# Altium integrated library TI Microcontroller MSP430 16-bit Ultra-Low Power.IntLib: 1463 symbols (part 55 of 130)
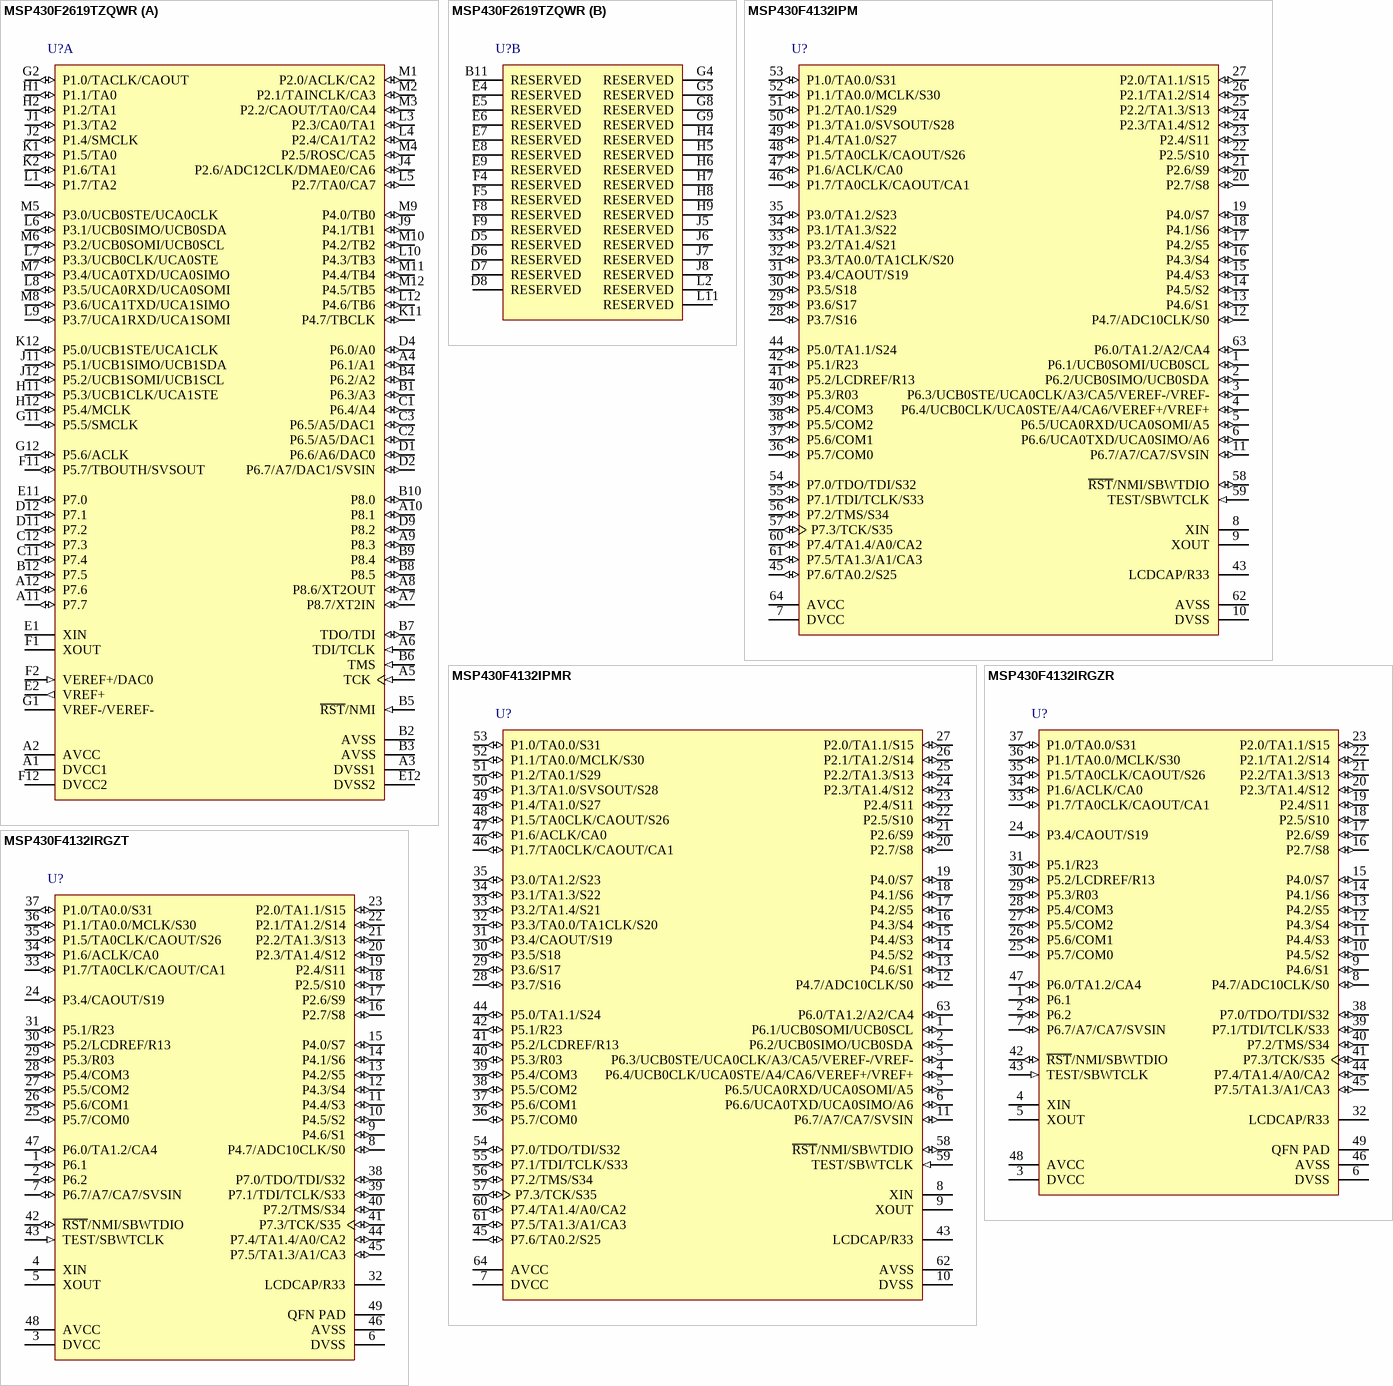
[diagram p264: symbols MSP430F2619TZQWR to MSP430F4132IRGZT]

## MSP430F4132IRGZR
designator U?
8 MHz Mixed Signal Microcontroller with 8 KB Flash, 512 B SRAM and 56 GPIOs, -40 to 85 degC, 48-pin QFN (RGZ), Green (RoHS & no Sb/Br); Manufacturer: Texas Instruments; PartNumber: MSP430F4132IRGZR; ADC: 10-bit SAR; Brown Out Reset: Yes; Flash(KB): 8; GPIO: 56; LCD Segments: 144; SRAM(B): 512; SubFamily: 4 Series with LCD; Timers - 16-bit: 2; USCI_A (UART/LIN/IrDA/SPI): 1; DatasheetVersion: SLAS648E; PackageVersion: 4204101/F; PackageReference: RGZ48-5150X5150TP; PackageDescription: 48-Pin Plastic Flat Pack, Body 7 x 7 mm, Pitch 0.5 mm; Supplier 1: Digi-Key; Supplier Part Number 1: 296-24860-2-ND; Supplier 2: Digi-Key; Supplier Part Number 2: 296-24860-1-ND; Supplier 3: Digi-Key; Supplier Part Number 3: 296-24860-6-ND; Supplier 4: Newark; Supplier Part Number 4: 24R9835; Supplier 5: Mouser; Supplier Part Number 5: 595-MSP430F4132IPMR; Comparators: Yes; Eco-Plan: Green (RoHS & no Sb/Br); Frequency(MHz): 8; SVS: Yes; Temp Sensor: Yes; USCI_B (I2C & SPI): 1; Watchdog: Yes; Mounting Technology: Surface Mount; Code_JEDEC: MO-220; ComponentLink1Description: Manufacturer URL; ComponentLink1URL: http://www.ti.com/; ComponentLink2Description: Datasheet; ComponentLink2URL: http://www.ti.com/general/docs/lit/getliterature.tsp?genericPartNumber=MSP430F4132&fileType=pdf; ComponentLink3Description: Package Specification; ComponentLink3URL: http://www.ti.com/lit/ml/mpqf123e/mpqf123e.pdf
footprint TI-RGZ48-5150X5150TP_N (QFN, 48-Leads, Body 7x7mm, Pitch 0.5mm, Thermal Pad 5.15X5.15mm, IPC Medium Density)
pins: 1 P6.1 (io) "General-purpose digital I/O pin USCI B0 slave out/master in in SPI mode, SCL I2C clock in I2C model", 2 P6.2 (io) "General-purpose digital I/O pin USCI B0 slave in/master out in SPI mode, SDA I2C data in I2C model", 3 DVCC (power) "Digital supply voltage, positive terminal. Supplies all digital parts", 4 XIN "Input port for crystal oscillator XT1. Standard or watch crystals can be connected", 5 XOUT "Output port for crystal oscillator XT1. Standard or watch crystals can be connected", 6 DVSS (power) "Digital supply voltage, negative terminal. Supplies all digital parts", 7 P6.7/A7/CA7/SVSIN (io), 8 P4.7/ADC10CLK/S0 (io), 9 P4.6/S1 (io), 10 P4.5/S2 (io), 11 P4.4/S3 (io), 12 P4.3/S4 (io), 13 P4.2/S5 (io), 14 P4.1/S6 (io), 15 P4.0/S7 (io), 16 P2.7/S8 (io), 17 P2.6/S9 (io), 18 P2.5/S10 (io), 19 P2.4/S11 (io), 20 P2.3/TA1.4/S12 (io), 21 P2.2/TA1.3/S13 (io), 22 P2.1/TA1.2/S14 (io), 23 P2.0/TA1.1/S15 (io), 24 P3.4/CAOUT/S19 (io), 25 P5.7/COM0 (io), 26 P5.6/COM1 (io), 27 P5.5/COM2 (io), 28 P5.4/COM3 (io), 29 P5.3/R03 (io), 30 P5.2/LCDREF/R13 (io), 31 P5.1/R23 (io), 32 LCDCAP/R33, 33 P1.7/TA0CLK/CAOUT/CA1 (io), 34 P1.6/ACLK/CA0 (io), 35 P1.5/TA0CLK/CAOUT/S26 (io), 36 P1.1/TA0.0/MCLK/S30 (io), 37 P1.0/TA0.0/S31 (io), 38 P7.0/TDO/TDI/S32 (io), 39 P7.1/TDI/TCLK/S33 (io), 40 P7.2/TMS/S34 (io), 41 P7.3/TCK/S35 (io), 42 ~{RST}/NMI/SBWTDIO (io), 43 TEST/SBWTCLK (in), 44 P7.4/TA1.4/A0/CA2 (io), 45 P7.5/TA1.3/A1/CA3 (io), 46 AVSS (power) "Analog supply voltage, negative terminal", 47 P6.0/TA1.2/CA4 (io), 48 AVCC (power) "Analog supply voltage, positive terminal", 49 QFN PAD (power) "QFN package pad (RGZ package only). Connection to DVSS is recommended."

## MSP430F4132IRGZT
designator U?
8 MHz Mixed Signal Microcontroller with 8 KB Flash, 512 B SRAM and 56 GPIOs, -40 to 85 degC, 48-pin QFN (RGZ), Green (RoHS & no Sb/Br); Manufacturer: Texas Instruments; PartNumber: MSP430F4132IRGZT; ADC: 10-bit SAR; Brown Out Reset: Yes; Flash(KB): 8; GPIO: 56; LCD Segments: 144; SRAM(B): 512; SubFamily: 4 Series with LCD; Timers - 16-bit: 2; USCI_A (UART/LIN/IrDA/SPI): 1; DatasheetVersion: SLAS648E; PackageVersion: 4204101/F; PackageReference: RGZ48-5150X5150TP; PackageDescription: 48-Pin Plastic Flat Pack, Body 7 x 7 mm, Pitch 0.5 mm; Supplier 1: Digi-Key; Supplier Part Number 1: 296-24646-2-ND; Supplier 2: Digi-Key; Supplier Part Number 2: 296-24646-1-ND; Supplier 3: Digi-Key; Supplier Part Number 3: 296-24646-6-ND; Supplier 4: Newark; Supplier Part Number 4: 24R9836; Supplier 5: Mouser; Supplier Part Number 5: 595-MSP430F4132IRGZR; Comparators: Yes; Eco-Plan: Green (RoHS & no Sb/Br); Frequency(MHz): 8; SVS: Yes; Temp Sensor: Yes; USCI_B (I2C & SPI): 1; Watchdog: Yes; Mounting Technology: Surface Mount; Code_JEDEC: MO-220; ComponentLink1Description: Manufacturer URL; ComponentLink1URL: http://www.ti.com/; ComponentLink2Description: Datasheet; ComponentLink2URL: http://www.ti.com/general/docs/lit/getliterature.tsp?genericPartNumber=MSP430F4132&fileType=pdf; ComponentLink3Description: Package Specification; ComponentLink3URL: http://www.ti.com/lit/ml/mpqf123e/mpqf123e.pdf
footprint TI-RGZ48-5150X5150TP_N (QFN, 48-Leads, Body 7x7mm, Pitch 0.5mm, Thermal Pad 5.15X5.15mm, IPC Medium Density)
pins: 1 P6.1 (io) "General-purpose digital I/O pin USCI B0 slave out/master in in SPI mode, SCL I2C clock in I2C model", 2 P6.2 (io) "General-purpose digital I/O pin USCI B0 slave in/master out in SPI mode, SDA I2C data in I2C model", 3 DVCC (power) "Digital supply voltage, positive terminal. Supplies all digital parts", 4 XIN "Input port for crystal oscillator XT1. Standard or watch crystals can be connected", 5 XOUT "Output port for crystal oscillator XT1. Standard or watch crystals can be connected", 6 DVSS (power) "Digital supply voltage, negative terminal. Supplies all digital parts", 7 P6.7/A7/CA7/SVSIN (io), 8 P4.7/ADC10CLK/S0 (io), 9 P4.6/S1 (io), 10 P4.5/S2 (io), 11 P4.4/S3 (io), 12 P4.3/S4 (io), 13 P4.2/S5 (io), 14 P4.1/S6 (io), 15 P4.0/S7 (io), 16 P2.7/S8 (io), 17 P2.6/S9 (io), 18 P2.5/S10 (io), 19 P2.4/S11 (io), 20 P2.3/TA1.4/S12 (io), 21 P2.2/TA1.3/S13 (io), 22 P2.1/TA1.2/S14 (io), 23 P2.0/TA1.1/S15 (io), 24 P3.4/CAOUT/S19 (io), 25 P5.7/COM0 (io), 26 P5.6/COM1 (io), 27 P5.5/COM2 (io), 28 P5.4/COM3 (io), 29 P5.3/R03 (io), 30 P5.2/LCDREF/R13 (io), 31 P5.1/R23 (io), 32 LCDCAP/R33, 33 P1.7/TA0CLK/CAOUT/CA1 (io), 34 P1.6/ACLK/CA0 (io), 35 P1.5/TA0CLK/CAOUT/S26 (io), 36 P1.1/TA0.0/MCLK/S30 (io), 37 P1.0/TA0.0/S31 (io), 38 P7.0/TDO/TDI/S32 (io), 39 P7.1/TDI/TCLK/S33 (io), 40 P7.2/TMS/S34 (io), 41 P7.3/TCK/S35 (io), 42 ~{RST}/NMI/SBWTDIO (io), 43 TEST/SBWTCLK (in), 44 P7.4/TA1.4/A0/CA2 (io), 45 P7.5/TA1.3/A1/CA3 (io), 46 AVSS (power) "Analog supply voltage, negative terminal", 47 P6.0/TA1.2/CA4 (io), 48 AVCC (power) "Analog supply voltage, positive terminal", 49 QFN PAD (power) "QFN package pad (RGZ package only). Connection to DVSS is recommended."

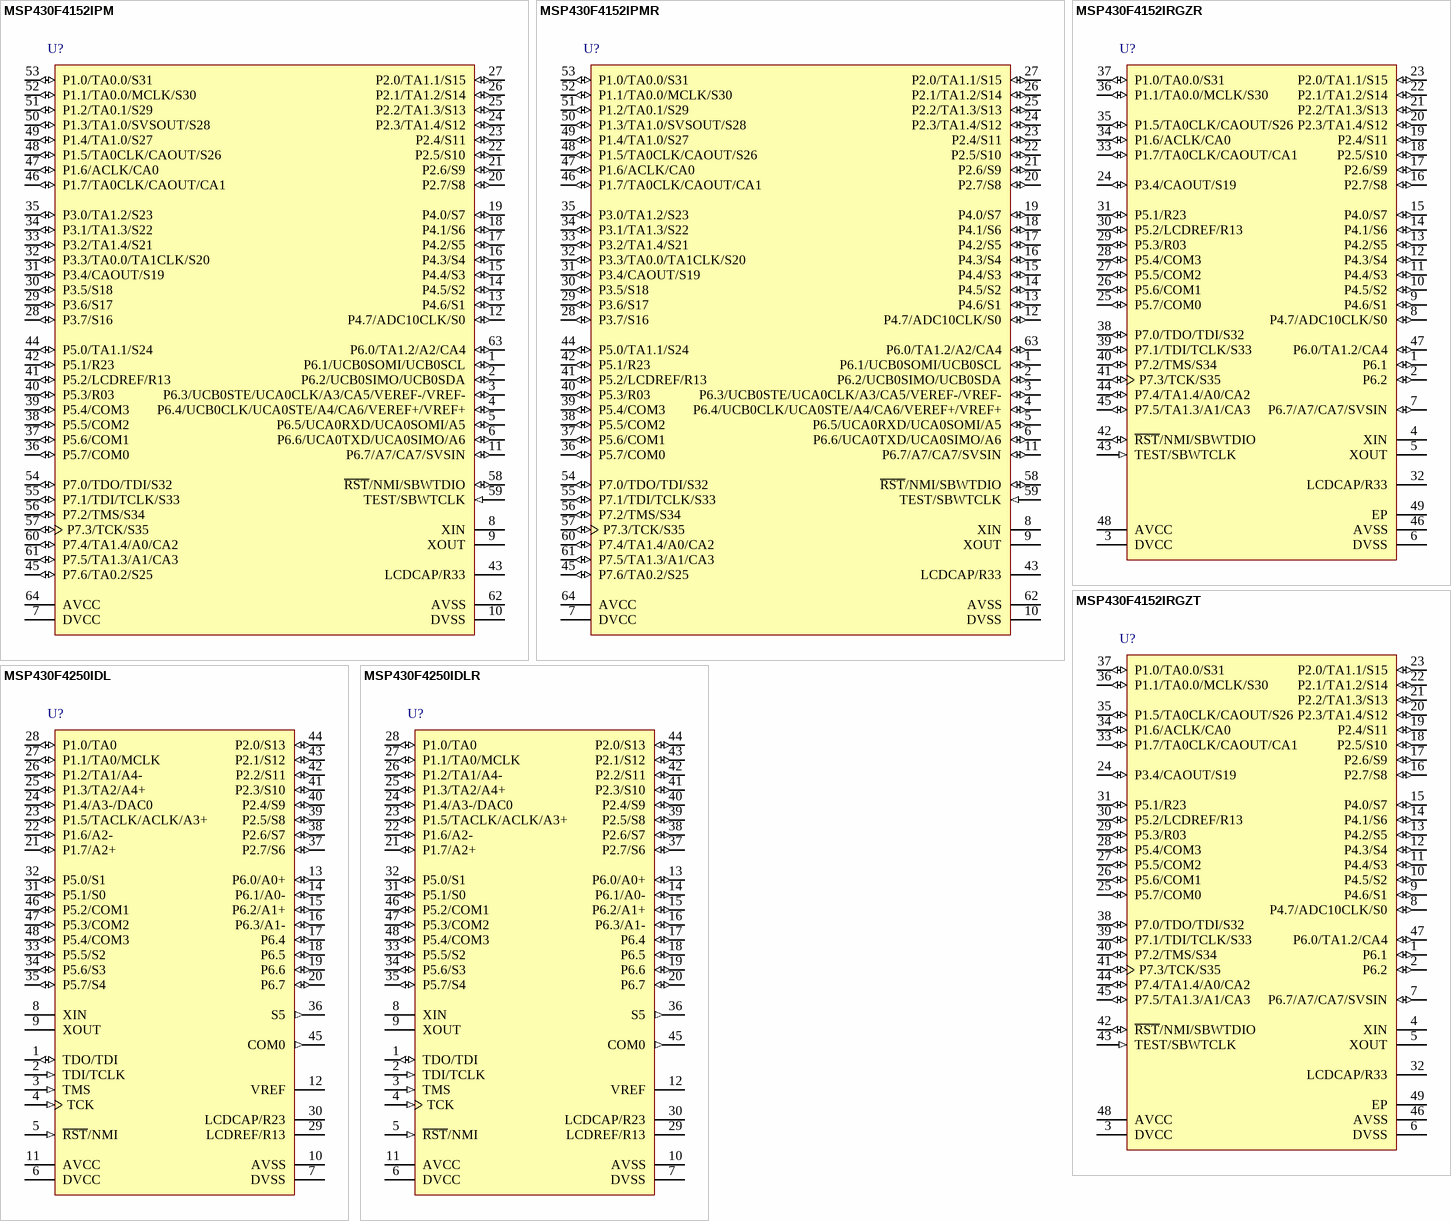
[diagram p78: symbols MSP430F4152IPM to MSP430F4250IDLR]

## MSP430F4152IPM
designator U?
8 MHz Mixed Signal Microcontroller with 16 KB Flash, 512 B SRAM and 56 GPIOs, -40 to 85 degC, 64-pin QFP (PM), Green (RoHS & no Sb/Br); Manufacturer: Texas Instruments; PartNumber: MSP430F4152IPM; ADC: 10-bit SAR; Brown Out Reset: Yes; Flash(KB): 16; Frequency(MHz): 8; GPIO: 56; LCD Segments: 144; SRAM(B): 512; SubFamily: 4 Series with LCD; Timers - 16-bit: 2; USCI_A (UART/LIN/IrDA/SPI): 1; DatasheetVersion: SLAS648E; PackageVersion: 4040152/C; PackageReference: PM64; PackageDescription: 64-Pin Plastic Quad Flat Pack, Body 10 x 10 mm, Pitch 0.5 mm; Supplier 1: Digi-Key; Supplier Part Number 1: 296-17324-2-ND; Supplier 2: Digi-Key; Supplier Part Number 2: 296-17324-1-ND; Supplier 3: Digi-Key; Supplier Part Number 3: 296-17324-6-ND; Supplier 4: Farnell; Supplier Part Number 4: 1537194; Supplier 5: Farnell; Supplier Part Number 5: 1899535; Supplier 6: Newark; Supplier Part Number 6: 21J8851; Supplier 7: Mouser; Supplier Part Number 7: 595-MSP430F413IRTDT; Comparators: Yes; Eco-Plan: Green (RoHS & no Sb/Br); SVS: Yes; Temp Sensor: Yes; USCI_B (I2C & SPI): 1; Watchdog: Yes; Mounting Technology: Surface Mount; Code_JEDEC: MS-026; ComponentLink1Description: Manufacturer URL; ComponentLink1URL: http://www.ti.com/; ComponentLink2Description: Datasheet; ComponentLink2URL: http://www.ti.com/general/docs/lit/getliterature.tsp?genericPartNumber=MSP430F4152&fileType=pdf; ComponentLink3Description: Package Specification; ComponentLink3URL: http://www.ti.com/lit/ml/mtqf008a/mtqf008a.pdf
footprint TI-PM64_N (QFP, 64-Leads, Body 10x10mm, Pitch 0.5mm, IPC Medium Density)
pins: 1 P6.1/UCB0SOMI/UCB0SCL (io), 2 P6.2/UCB0SIMO/UCB0SDA (io), 3 P6.3/UCB0STE/UCA0CLK/A3/CA5/VEREF-/VREF- (io), 4 P6.4/UCB0CLK/UCA0STE/A4/CA6/VEREF+/VREF+ (io), 5 P6.5/UCA0RXD/UCA0SOMI/A5 (io), 6 P6.6/UCA0TXD/UCA0SIMO/A6 (io), 7 DVCC (power) "Digital supply voltage, positive terminal. Supplies all digital parts.", 8 XIN "Input port for crystal oscillator XT1. Standard or watch crystals can be connected.", 9 XOUT "Output port for crystal oscillator XT1. Standard or watch crystals can be connected.", 10 DVSS (power) "Digital supply voltage, negative terminal. Supplies all digital parts.", 11 P6.7/A7/CA7/SVSIN (io), 12 P4.7/ADC10CLK/S0 (io), 13 P4.6/S1 (io), 14 P4.5/S2 (io), 15 P4.4/S3 (io), 16 P4.3/S4 (io), 17 P4.2/S5 (io), 18 P4.1/S6 (io), 19 P4.0/S7 (io), 20 P2.7/S8 (io), 21 P2.6/S9 (io), 22 P2.5/S10 (io), 23 P2.4/S11 (io), 24 P2.3/TA1.4/S12 (io), 25 P2.2/TA1.3/S13 (io), 26 P2.1/TA1.2/S14 (io), 27 P2.0/TA1.1/S15 (io), 28 P3.7/S16 (io), 29 P3.6/S17 (io), 30 P3.5/S18 (io), 31 P3.4/CAOUT/S19 (io), 32 P3.3/TA0.0/TA1CLK/S20 (io), 33 P3.2/TA1.4/S21 (io), 34 P3.1/TA1.3/S22 (io), 35 P3.0/TA1.2/S23 (io), 36 P5.7/COM0 (io), 37 P5.6/COM1 (io), 38 P5.5/COM2 (io), 39 P5.4/COM3 (io), 40 P5.3/R03 (io), 41 P5.2/LCDREF/R13 (io), 42 P5.1/R23 (io), 43 LCDCAP/R33, 44 P5.0/TA1.1/S24 (io), 45 P7.6/TA0.2/S25 (io), 46 P1.7/TA0CLK/CAOUT/CA1 (io), 47 P1.6/ACLK/CA0 (io), 48 P1.5/TA0CLK/CAOUT/S26 (io), 49 P1.4/TA1.0/S27 (io), 50 P1.3/TA1.0/SVSOUT/S28 (io), 51 P1.2/TA0.1/S29 (io), 52 P1.1/TA0.0/MCLK/S30 (io), 53 P1.0/TA0.0/S31 (io), 54 P7.0/TDO/TDI/S32 (io), 55 P7.1/TDI/TCLK/S33 (io), 56 P7.2/TMS/S34 (io), 57 P7.3/TCK/S35 (io), 58 ~{RST}/NMI/SBWTDIO (io), 59 TEST/SBWTCLK (in), 60 P7.4/TA1.4/A0/CA2 (io), 61 P7.5/TA1.3/A1/CA3 (io), 62 AVSS (power) "Analog supply voltage, negative terminal", 63 P6.0/TA1.2/A2/CA4 (io), 64 AVCC (power) "Analog supply voltage, positive terminal"

## MSP430F4152IPMR
designator U?
8 MHz Mixed Signal Microcontroller with 16 KB Flash, 512 B SRAM and 56 GPIOs, -40 to 85 degC, 64-pin QFP (PM), Green (RoHS & no Sb/Br); Manufacturer: Texas Instruments; PartNumber: MSP430F4152IPMR; ADC: 10-bit SAR; Brown Out Reset: Yes; Flash(KB): 16; Frequency(MHz): 8; GPIO: 56; LCD Segments: 144; SRAM(B): 512; SubFamily: 4 Series with LCD; Timers - 16-bit: 2; USCI_A (UART/LIN/IrDA/SPI): 1; DatasheetVersion: SLAS648E; PackageVersion: 4040152/C; PackageReference: PM64; PackageDescription: 64-Pin Plastic Quad Flat Pack, Body 10 x 10 mm, Pitch 0.5 mm; Supplier 1: Digi-Key; Supplier Part Number 1: 296-24591-ND; Supplier 2: Farnell; Supplier Part Number 2: 1903438; Supplier 3: Newark; Supplier Part Number 3: 58T9823; Supplier 4: Mouser; Supplier Part Number 4: 595-MSP430F4152IPM; Comparators: Yes; Eco-Plan: Green (RoHS & no Sb/Br); SVS: Yes; Temp Sensor: Yes; USCI_B (I2C & SPI): 1; Watchdog: Yes; Mounting Technology: Surface Mount; Code_JEDEC: MS-026; ComponentLink1Description: Manufacturer URL; ComponentLink1URL: http://www.ti.com/; ComponentLink2Description: Datasheet; ComponentLink2URL: http://www.ti.com/general/docs/lit/getliterature.tsp?genericPartNumber=MSP430F4152&fileType=pdf; ComponentLink3Description: Package Specification; ComponentLink3URL: http://www.ti.com/lit/ml/mtqf008a/mtqf008a.pdf
footprint TI-PM64_N (QFP, 64-Leads, Body 10x10mm, Pitch 0.5mm, IPC Medium Density)
pins: 1 P6.1/UCB0SOMI/UCB0SCL (io), 2 P6.2/UCB0SIMO/UCB0SDA (io), 3 P6.3/UCB0STE/UCA0CLK/A3/CA5/VEREF-/VREF- (io), 4 P6.4/UCB0CLK/UCA0STE/A4/CA6/VEREF+/VREF+ (io), 5 P6.5/UCA0RXD/UCA0SOMI/A5 (io), 6 P6.6/UCA0TXD/UCA0SIMO/A6 (io), 7 DVCC (power) "Digital supply voltage, positive terminal. Supplies all digital parts.", 8 XIN "Input port for crystal oscillator XT1. Standard or watch crystals can be connected.", 9 XOUT "Output port for crystal oscillator XT1. Standard or watch crystals can be connected.", 10 DVSS (power) "Digital supply voltage, negative terminal. Supplies all digital parts.", 11 P6.7/A7/CA7/SVSIN (io), 12 P4.7/ADC10CLK/S0 (io), 13 P4.6/S1 (io), 14 P4.5/S2 (io), 15 P4.4/S3 (io), 16 P4.3/S4 (io), 17 P4.2/S5 (io), 18 P4.1/S6 (io), 19 P4.0/S7 (io), 20 P2.7/S8 (io), 21 P2.6/S9 (io), 22 P2.5/S10 (io), 23 P2.4/S11 (io), 24 P2.3/TA1.4/S12 (io), 25 P2.2/TA1.3/S13 (io), 26 P2.1/TA1.2/S14 (io), 27 P2.0/TA1.1/S15 (io), 28 P3.7/S16 (io), 29 P3.6/S17 (io), 30 P3.5/S18 (io), 31 P3.4/CAOUT/S19 (io), 32 P3.3/TA0.0/TA1CLK/S20 (io), 33 P3.2/TA1.4/S21 (io), 34 P3.1/TA1.3/S22 (io), 35 P3.0/TA1.2/S23 (io), 36 P5.7/COM0 (io), 37 P5.6/COM1 (io), 38 P5.5/COM2 (io), 39 P5.4/COM3 (io), 40 P5.3/R03 (io), 41 P5.2/LCDREF/R13 (io), 42 P5.1/R23 (io), 43 LCDCAP/R33, 44 P5.0/TA1.1/S24 (io), 45 P7.6/TA0.2/S25 (io), 46 P1.7/TA0CLK/CAOUT/CA1 (io), 47 P1.6/ACLK/CA0 (io), 48 P1.5/TA0CLK/CAOUT/S26 (io), 49 P1.4/TA1.0/S27 (io), 50 P1.3/TA1.0/SVSOUT/S28 (io), 51 P1.2/TA0.1/S29 (io), 52 P1.1/TA0.0/MCLK/S30 (io), 53 P1.0/TA0.0/S31 (io), 54 P7.0/TDO/TDI/S32 (io), 55 P7.1/TDI/TCLK/S33 (io), 56 P7.2/TMS/S34 (io), 57 P7.3/TCK/S35 (io), 58 ~{RST}/NMI/SBWTDIO (io), 59 TEST/SBWTCLK (in), 60 P7.4/TA1.4/A0/CA2 (io), 61 P7.5/TA1.3/A1/CA3 (io), 62 AVSS (power) "Analog supply voltage, negative terminal", 63 P6.0/TA1.2/A2/CA4 (io), 64 AVCC (power) "Analog supply voltage, positive terminal"

## MSP430F4152IRGZR
designator U?
8 MHz Mixed Signal Microcontroller with 16 KB Flash, 512 B SRAM and 56 GPIOs, -40 to 85 degC, 48-pin QFN (RGZ), Green (RoHS & no Sb/Br); Manufacturer: Texas Instruments; PartNumber: MSP430F4152IRGZR; ADC: 10-bit SAR; Brown Out Reset: Yes; Flash(KB): 16; Frequency(MHz): 8; GPIO: 56; LCD Segments: 144; SRAM(B): 512; SubFamily: 4 Series with LCD; Timers - 16-bit: 2; USCI_A (UART/LIN/IrDA/SPI): 1; DatasheetVersion: SLAS648E; PackageVersion: 4204101/F; PackageReference: RGZ48-5150X5150TP; PackageDescription: 48-Pin Plastic Flat Pack, Body 7 x 7 mm, Pitch 0.5 mm; Supplier 1: Digi-Key; Supplier Part Number 1: 296-24861-2-ND; Supplier 2: Digi-Key; Supplier Part Number 2: 296-24861-1-ND; Supplier 3: Digi-Key; Supplier Part Number 3: 296-24861-6-ND; Supplier 4: Newark; Supplier Part Number 4: 24R9838; Supplier 5: Mouser; Supplier Part Number 5: 595-MSP430F4152IPMR; Comparators: Yes; Eco-Plan: Green (RoHS & no Sb/Br); SVS: Yes; Temp Sensor: Yes; USCI_B (I2C & SPI): 1; Watchdog: Yes; Mounting Technology: Surface Mount; Code_JEDEC: MO-220; ComponentLink1Description: Manufacturer URL; ComponentLink1URL: http://www.ti.com/; ComponentLink2Description: Datasheet; ComponentLink2URL: http://www.ti.com/general/docs/lit/getliterature.tsp?genericPartNumber=MSP430F4152&fileType=pdf; ComponentLink3Description: Package Specification; ComponentLink3URL: http://www.ti.com/lit/ml/mpqf123e/mpqf123e.pdf
footprint TI-RGZ48-5150X5150TP_N (QFN, 48-Leads, Body 7x7mm, Pitch 0.5mm, Thermal Pad 5.15X5.15mm, IPC Medium Density)
pins: 1 P6.1 (io) "General-purpose digital I/O pin USCI B0 slave out/master in in SPI mode, SCL I2C clock in I2C mode", 2 P6.2 (io) "General-purpose digital I/O pin USCI B0 slave in/master out in SPI mode, SDA I2C data in I2C mode", 3 DVCC (power) "Digital supply voltage, positive terminal. Supplies all digital parts", 4 XIN "Input port for crystal oscillator XT1. Standard or watch crystals can be connected", 5 XOUT "Output port for crystal oscillator XT1. Standard or watch crystals can be connected", 6 DVSS (power) "Digital supply voltage, negative terminal. Supplies all digital parts", 7 P6.7/A7/CA7/SVSIN (io), 8 P4.7/ADC10CLK/S0 (io), 9 P4.6/S1 (io), 10 P4.5/S2 (io), 11 P4.4/S3 (io), 12 P4.3/S4 (io), 13 P4.2/S5 (io), 14 P4.1/S6 (io), 15 P4.0/S7 (io), 16 P2.7/S8 (io), 17 P2.6/S9 (io), 18 P2.5/S10 (io), 19 P2.4/S11 (io), 20 P2.3/TA1.4/S12 (io), 21 P2.2/TA1.3/S13 (io), 22 P2.1/TA1.2/S14 (io), 23 P2.0/TA1.1/S15 (io), 24 P3.4/CAOUT/S19 (io), 25 P5.7/COM0 (io), 26 P5.6/COM1 (io), 27 P5.5/COM2 (io), 28 P5.4/COM3 (io), 29 P5.3/R03 (io), 30 P5.2/LCDREF/R13 (io), 31 P5.1/R23 (io), 32 LCDCAP/R33, 33 P1.7/TA0CLK/CAOUT/CA1 (io), 34 P1.6/ACLK/CA0 (io), 35 P1.5/TA0CLK/CAOUT/S26 (io), 36 P1.1/TA0.0/MCLK/S30 (io), 37 P1.0/TA0.0/S31 (io), 38 P7.0/TDO/TDI/S32 (io), 39 P7.1/TDI/TCLK/S33 (io), 40 P7.2/TMS/S34 (io), 41 P7.3/TCK/S35 (io), 42 ~{RST}/NMI/SBWTDIO (io), 43 TEST/SBWTCLK (in), 44 P7.4/TA1.4/A0/CA2 (io), 45 P7.5/TA1.3/A1/CA3 (io), 46 AVSS (power) "Analog supply voltage, negative terminal", 47 P6.0/TA1.2/CA4 (io), 48 AVCC (power) "Analog supply voltage, positive terminal", 49 EP (power) "QFN package pad (RGZ package only). Connection to DVSS is recommended."

## MSP430F4152IRGZT
designator U?
8 MHz Mixed Signal Microcontroller with 16 KB Flash, 512 B SRAM and 56 GPIOs, -40 to 85 degC, 48-pin QFN (RGZ), Green (RoHS & no Sb/Br); Manufacturer: Texas Instruments; PartNumber: MSP430F4152IRGZT; ADC: 10-bit SAR; Brown Out Reset: Yes; Flash(KB): 16; Frequency(MHz): 8; GPIO: 56; LCD Segments: 144; SRAM(B): 512; SubFamily: 4 Series with LCD; Timers - 16-bit: 2; USCI_A (UART/LIN/IrDA/SPI): 1; DatasheetVersion: SLAS648E; PackageVersion: 4204101/F; PackageReference: RGZ48-5150X5150TP; PackageDescription: 48-Pin Plastic Flat Pack, Body 7 x 7 mm, Pitch 0.5 mm; Supplier 1: Digi-Key; Supplier Part Number 1: 296-24647-2-ND; Supplier 2: Digi-Key; Supplier Part Number 2: 296-24647-1-ND; Supplier 3: Digi-Key; Supplier Part Number 3: 296-24647-6-ND; Supplier 4: Newark; Supplier Part Number 4: 24R9840; Supplier 5: Mouser; Supplier Part Number 5: 595-MSP430F4152IRGZR; Comparators: Yes; Eco-Plan: Green (RoHS & no Sb/Br); SVS: Yes; Temp Sensor: Yes; USCI_B (I2C & SPI): 1; Watchdog: Yes; Mounting Technology: Surface Mount; Code_JEDEC: MO-220; ComponentLink1Description: Manufacturer URL; ComponentLink1URL: http://www.ti.com/; ComponentLink2Description: Datasheet; ComponentLink2URL: http://www.ti.com/general/docs/lit/getliterature.tsp?genericPartNumber=MSP430F4152&fileType=pdf; ComponentLink3Description: Package Specification; ComponentLink3URL: http://www.ti.com/lit/ml/mpqf123e/mpqf123e.pdf
footprint TI-RGZ48-5150X5150TP_N (QFN, 48-Leads, Body 7x7mm, Pitch 0.5mm, Thermal Pad 5.15X5.15mm, IPC Medium Density)
pins: 1 P6.1 (io) "General-purpose digital I/O pin USCI B0 slave out/master in in SPI mode, SCL I2C clock in I2C mode", 2 P6.2 (io) "General-purpose digital I/O pin USCI B0 slave in/master out in SPI mode, SDA I2C data in I2C mode", 3 DVCC (power) "Digital supply voltage, positive terminal. Supplies all digital parts", 4 XIN "Input port for crystal oscillator XT1. Standard or watch crystals can be connected", 5 XOUT "Output port for crystal oscillator XT1. Standard or watch crystals can be connected", 6 DVSS (power) "Digital supply voltage, negative terminal. Supplies all digital parts", 7 P6.7/A7/CA7/SVSIN (io), 8 P4.7/ADC10CLK/S0 (io), 9 P4.6/S1 (io), 10 P4.5/S2 (io), 11 P4.4/S3 (io), 12 P4.3/S4 (io), 13 P4.2/S5 (io), 14 P4.1/S6 (io), 15 P4.0/S7 (io), 16 P2.7/S8 (io), 17 P2.6/S9 (io), 18 P2.5/S10 (io), 19 P2.4/S11 (io), 20 P2.3/TA1.4/S12 (io), 21 P2.2/TA1.3/S13 (io), 22 P2.1/TA1.2/S14 (io), 23 P2.0/TA1.1/S15 (io), 24 P3.4/CAOUT/S19 (io), 25 P5.7/COM0 (io), 26 P5.6/COM1 (io), 27 P5.5/COM2 (io), 28 P5.4/COM3 (io), 29 P5.3/R03 (io), 30 P5.2/LCDREF/R13 (io), 31 P5.1/R23 (io), 32 LCDCAP/R33, 33 P1.7/TA0CLK/CAOUT/CA1 (io), 34 P1.6/ACLK/CA0 (io), 35 P1.5/TA0CLK/CAOUT/S26 (io), 36 P1.1/TA0.0/MCLK/S30 (io), 37 P1.0/TA0.0/S31 (io), 38 P7.0/TDO/TDI/S32 (io), 39 P7.1/TDI/TCLK/S33 (io), 40 P7.2/TMS/S34 (io), 41 P7.3/TCK/S35 (io), 42 ~{RST}/NMI/SBWTDIO (io), 43 TEST/SBWTCLK (in), 44 P7.4/TA1.4/A0/CA2 (io), 45 P7.5/TA1.3/A1/CA3 (io), 46 AVSS (power) "Analog supply voltage, negative terminal", 47 P6.0/TA1.2/CA4 (io), 48 AVCC (power) "Analog supply voltage, positive terminal", 49 EP (power) "QFN package pad (RGZ package only). Connection to DVSS is recommended."

## MSP430F4250IDL
designator U?
8 MHz Mixed Signal Microcontroller with 16 KB Flash, 256 B SRAM and 32 GPIOs, -40 to 85 degC, 48-pin SOP (DL), Green (RoHS & no Sb/Br); Manufacturer: Texas Instruments; PartNumber: MSP430F4250IDL; ADC: 16-bit Sigma Delta; Brown Out Reset: Yes; DAC: 1; Flash(KB): 16; Frequency(MHz): 8; GPIO: 32; LCD Segments: 56; SRAM(B): 256; SubFamily: 4 Series with LCD; DatasheetVersion: SLAS455D; PackageVersion: 4040048/E; PackageReference: DL48; PackageDescription: 48-Pin Plastic Small Outline, Body 7.49 x 15.88 mm, Pitch 0.635 mm; Supplier 1: Digi-Key; Supplier Part Number 1: 296-24717-2-ND; Supplier 2: Digi-Key; Supplier Part Number 2: 296-24717-1-ND; Supplier 3: Digi-Key; Supplier Part Number 3: 296-24717-6-ND; Supplier 4: Newark; Supplier Part Number 4: 84M9635; Supplier 5: Mouser; Supplier Part Number 5: 595-MSP430F423AIPMR; Eco-Plan: Green (RoHS & no Sb/Br); Temp Sensor: Yes; Timers - 16-bit: 1; Watchdog: Yes; Mounting Technology: Surface Mount; Code_JEDEC: MO-118; ComponentLink1Description: Manufacturer URL; ComponentLink1URL: http://www.ti.com/; ComponentLink2Description: Datasheet; ComponentLink2URL: http://www.ti.com/general/docs/lit/getliterature.tsp?genericPartNumber=MSP430F4250&fileType=pdf; ComponentLink3Description: Package Specification; ComponentLink3URL: http://www.ti.com/lit/ml/msso001c/msso001c.pdf
footprint TI-DL48_N (SOP, 48-Leads, Body 15.88x7.49mm, Pitch 0.635mm, IPC Medium Density)
pins: 1 TDO/TDI (io), 2 TDI/TCLK (in), 3 TMS (in) "Test mode select. TMS is used as an input port for device programming and test.", 4 TCK (in) "Test clock. TCK is the clock input port for device programming and test.", 5 ~{RST}/NMI (in), 6 DVCC (power) "Digital supply voltage, positive terminal", 7 DVSS (power) "Digital supply voltage, negative terminal", 8 XIN "Input terminal of crystal oscillator XT1", 9 XOUT "Output terminal of crystal oscillator XT1", 10 AVSS (power) "Analog supply voltage, negative terminal", 11 AVCC (power) "Analog supply voltage, positive terminal", 12 VREF "Analog reference voltage", 13 P6.0/A0+ (io), 14 P6.1/A0- (io), 15 P6.2/A1+ (io), 16 P6.3/A1- (io), 17 P6.4 (io) "General-purpose digital I/O", 18 P6.5 (io) "General-purpose digital I/O", 19 P6.6 (io) "General-purpose digital I/O", 20 P6.7 (io) "General-purpose digital I/O", 21 P1.7/A2+ (io), 22 P1.6/A2- (io), 23 P1.5/TACLK/ACLK/A3+ (io), 24 P1.4/A3-/DAC0 (io), 25 P1.3/TA2/A4+ (io), 26 P1.2/TA1/A4- (io), 27 P1.1/TA0/MCLK (io), 28 P1.0/TA0 (io), 29 LCDREF/R13, 30 LCDCAP/R23, 31 P5.1/S0 (io), 32 P5.0/S1 (io), 33 P5.5/S2 (io), 34 P5.6/S3 (io), 35 P5.7/S4 (io), 36 S5 (out) "LCD segment output 5", 37 P2.7/S6 (io), 38 P2.6/S7 (io), 39 P2.5/S8 (io), 40 P2.4/S9 (io), 41 P2.3/S10 (io), 42 P2.2/S11 (io), 43 P2.1/S12 (io), 44 P2.0/S13 (io), 45 COM0 (out) "Common output, COM0-3 are used for LCD backplanes.", 46 P5.2/COM1 (io), 47 P5.3/COM2 (io), 48 P5.4/COM3 (io)

## MSP430F4250IDLR
designator U?
8 MHz Mixed Signal Microcontroller with 16 KB Flash, 256 B SRAM and 32 GPIOs, -40 to 85 degC, 48-pin SOP (DL), Green (RoHS & no Sb/Br); Manufacturer: Texas Instruments; PartNumber: MSP430F4250IDLR; ADC: 16-bit Sigma Delta; Brown Out Reset: Yes; DAC: 1; Flash(KB): 16; Frequency(MHz): 8; GPIO: 32; LCD Segments: 56; SRAM(B): 256; SubFamily: 4 Series with LCD; DatasheetVersion: SLAS455D; PackageVersion: 4040048/E; PackageReference: DL48; PackageDescription: 48-Pin Plastic Small Outline, Body 7.49 x 15.88 mm, Pitch 0.635 mm; Supplier 1: Digi-Key; Supplier Part Number 1: 296-26228-5-ND; Supplier 2: Farnell; Supplier Part Number 2: 1537196; Supplier 3: Newark; Supplier Part Number 3: 95M6773; Supplier 4: Newark; Supplier Part Number 4: 40K7776; Supplier 5: Mouser; Supplier Part Number 5: 595-MSP430F4250IDL; Eco-Plan: Green (RoHS & no Sb/Br); Temp Sensor: Yes; Timers - 16-bit: 1; Watchdog: Yes; Mounting Technology: Surface Mount; Code_JEDEC: MO-118; ComponentLink1Description: Manufacturer URL; ComponentLink1URL: http://www.ti.com/; ComponentLink2Description: Datasheet; ComponentLink2URL: http://www.ti.com/general/docs/lit/getliterature.tsp?genericPartNumber=MSP430F4250&fileType=pdf; ComponentLink3Description: Package Specification; ComponentLink3URL: http://www.ti.com/lit/ml/msso001c/msso001c.pdf
footprint TI-DL48_N (SOP, 48-Leads, Body 15.88x7.49mm, Pitch 0.635mm, IPC Medium Density)
pins: 1 TDO/TDI (io), 2 TDI/TCLK (in), 3 TMS (in) "Test mode select. TMS is used as an input port for device programming and test.", 4 TCK (in) "Test clock. TCK is the clock input port for device programming and test.", 5 ~{RST}/NMI (in), 6 DVCC (power) "Digital supply voltage, positive terminal", 7 DVSS (power) "Digital supply voltage, negative terminal", 8 XIN "Input terminal of crystal oscillator XT1", 9 XOUT "Output terminal of crystal oscillator XT1", 10 AVSS (power) "Analog supply voltage, negative terminal", 11 AVCC (power) "Analog supply voltage, positive terminal", 12 VREF "Analog reference voltage", 13 P6.0/A0+ (io), 14 P6.1/A0- (io), 15 P6.2/A1+ (io), 16 P6.3/A1- (io), 17 P6.4 (io) "General-purpose digital I/O", 18 P6.5 (io) "General-purpose digital I/O", 19 P6.6 (io) "General-purpose digital I/O", 20 P6.7 (io) "General-purpose digital I/O", 21 P1.7/A2+ (io), 22 P1.6/A2- (io), 23 P1.5/TACLK/ACLK/A3+ (io), 24 P1.4/A3-/DAC0 (io), 25 P1.3/TA2/A4+ (io), 26 P1.2/TA1/A4- (io), 27 P1.1/TA0/MCLK (io), 28 P1.0/TA0 (io), 29 LCDREF/R13, 30 LCDCAP/R23, 31 P5.1/S0 (io), 32 P5.0/S1 (io), 33 P5.5/S2 (io), 34 P5.6/S3 (io), 35 P5.7/S4 (io), 36 S5 (out) "LCD segment output 5", 37 P2.7/S6 (io), 38 P2.6/S7 (io), 39 P2.5/S8 (io), 40 P2.4/S9 (io), 41 P2.3/S10 (io), 42 P2.2/S11 (io), 43 P2.1/S12 (io), 44 P2.0/S13 (io), 45 COM0 (out) "Common output, COM0-3 are used for LCD backplanes.", 46 P5.2/COM1 (io), 47 P5.3/COM2 (io), 48 P5.4/COM3 (io)

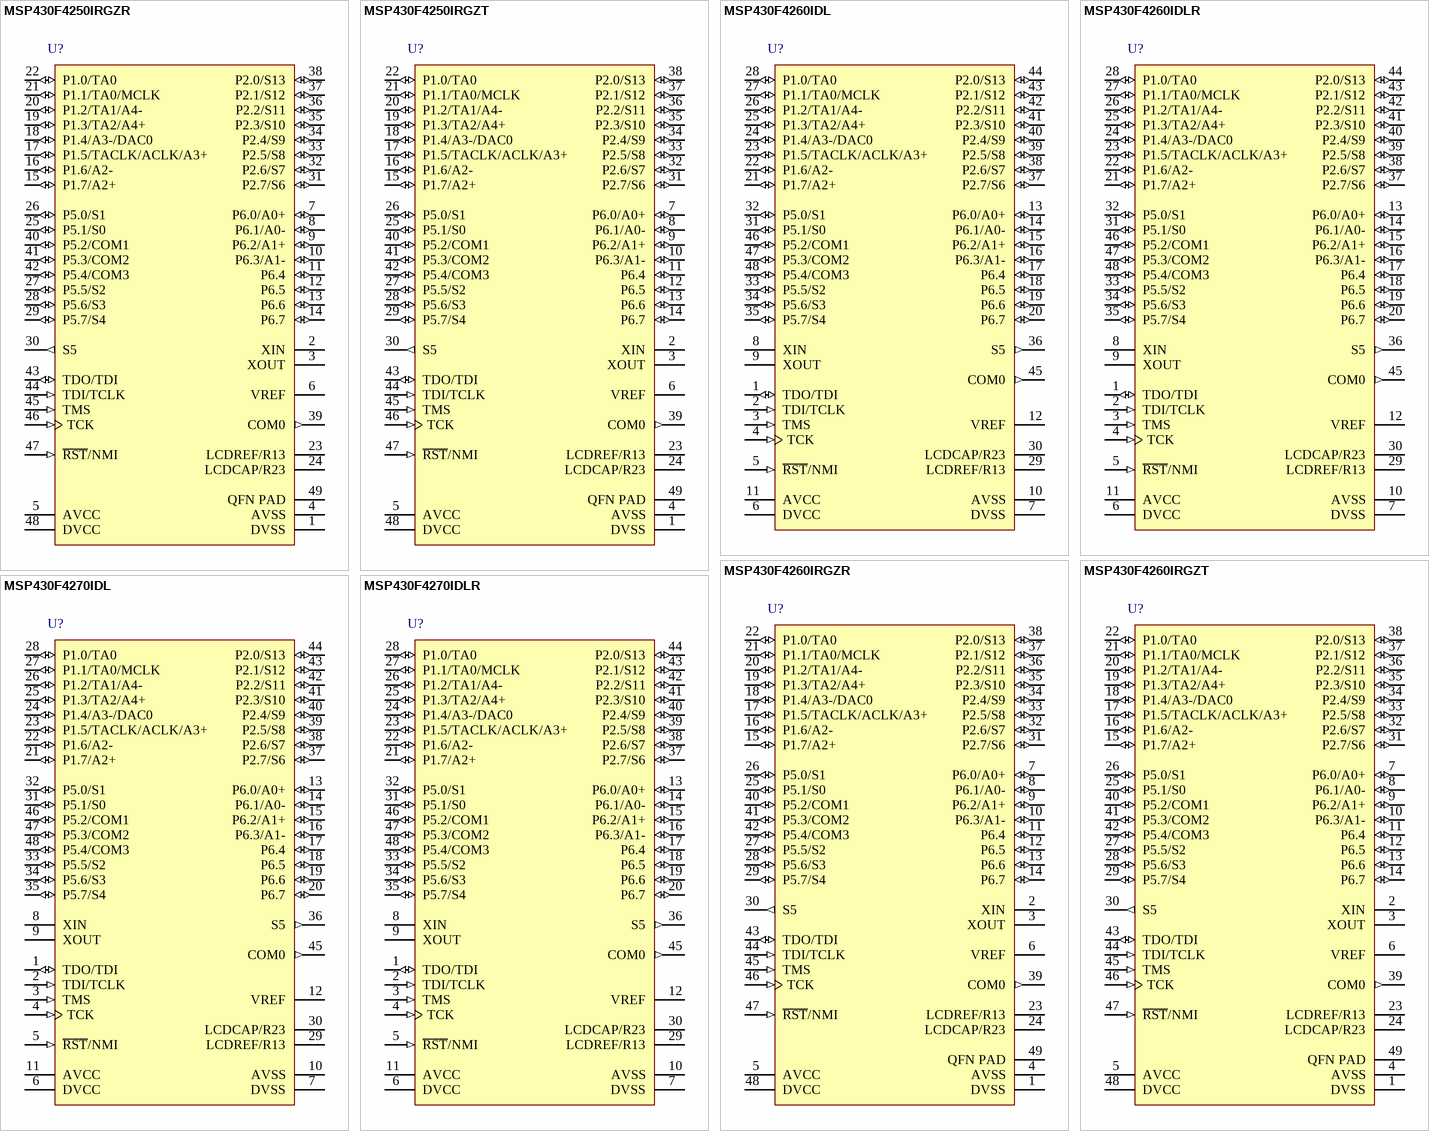
[diagram p79: symbols MSP430F4250IRGZR to MSP430F4270IDLR]

## MSP430F4250IRGZR
designator U?
8 MHz Mixed Signal Microcontroller with 16 KB Flash, 256 B SRAM and 32 GPIOs, -40 to 85 degC, 48-pin QFN (RGZ), Green (RoHS & no Sb/Br); Manufacturer: Texas Instruments; PartNumber: MSP430F4250IRGZR; ADC: 16-bit Sigma Delta; Brown Out Reset: Yes; DAC: 1; Flash(KB): 16; Frequency(MHz): 8; GPIO: 32; LCD Segments: 56; SRAM(B): 256; SubFamily: 4 Series with LCD; DatasheetVersion: SLAS455D; PackageVersion: 4204101/F; PackageReference: RGZ48-5150X5150TP; PackageDescription: 48-Pin Plastic Flat Pack, Body 7 x 7 mm, Pitch 0.5 mm; Supplier 1: Digi-Key; Supplier Part Number 1: 296-18068-2-ND; Supplier 2: Digi-Key; Supplier Part Number 2: 296-18068-1-ND; Supplier 3: Digi-Key; Supplier Part Number 3: 296-18068-6-ND; Supplier 4: Farnell; Supplier Part Number 4: 1846567; Supplier 5: Newark; Supplier Part Number 5: 37K0627; Supplier 6: Mouser; Supplier Part Number 6: 595-MSP430F4250IDLR; Eco-Plan: Green (RoHS & no Sb/Br); Temp Sensor: Yes; Timers - 16-bit: 1; Watchdog: Yes; Mounting Technology: Surface Mount; Code_JEDEC: MO-220; ComponentLink1Description: Manufacturer URL; ComponentLink1URL: http://www.ti.com/; ComponentLink2Description: Datasheet; ComponentLink2URL: http://www.ti.com/general/docs/lit/getliterature.tsp?genericPartNumber=MSP430F4250&fileType=pdf; ComponentLink3Description: Package Specification; ComponentLink3URL: http://www.ti.com/lit/ml/mpqf123e/mpqf123e.pdf
footprint TI-RGZ48-5150X5150TP_N (QFN, 48-Leads, Body 7x7mm, Pitch 0.5mm, Thermal Pad 5.15X5.15mm, IPC Medium Density)
pins: 1 DVSS (power) "Digital supply voltage, negative terminal", 2 XIN "Input terminal of crystal oscillator XT1", 3 XOUT "Output terminal of crystal oscillator XT1", 4 AVSS (power) "Analog supply voltage, negative terminal", 5 AVCC (power) "Analog supply voltage, positive terminal", 6 VREF "Analog reference voltage", 7 P6.0/A0+ (io), 8 P6.1/A0- (io), 9 P6.2/A1+ (io), 10 P6.3/A1- (io), 11 P6.4 (io) "General-purpose digital I/O", 12 P6.5 (io) "General-purpose digital I/O", 13 P6.6 (io) "General-purpose digital I/O", 14 P6.7 (io) "General-purpose digital I/O", 15 P1.7/A2+ (io), 16 P1.6/A2- (io), 17 P1.5/TACLK/ACLK/A3+ (io), 18 P1.4/A3-/DAC0 (io), 19 P1.3/TA2/A4+ (io), 20 P1.2/TA1/A4- (io), 21 P1.1/TA0/MCLK (io), 22 P1.0/TA0 (io), 23 LCDREF/R13, 24 LCDCAP/R23, 25 P5.1/S0 (io), 26 P5.0/S1 (io), 27 P5.5/S2 (io), 28 P5.6/S3 (io), 29 P5.7/S4 (io), 30 S5 (out) "LCD segment output 5", 31 P2.7/S6 (io), 32 P2.6/S7 (io), 33 P2.5/S8 (io), 34 P2.4/S9 (io), 35 P2.3/S10 (io), 36 P2.2/S11 (io), 37 P2.1/S12 (io), 38 P2.0/S13 (io), 39 COM0 (out) "Common output, COM0 are used for LCD backplanes.", 40 P5.2/COM1 (io), 41 P5.3/COM2 (io), 42 P5.4/COM3 (io), 43 TDO/TDI (io) "Test data output port. TDO/TDI data output or programming data input terminal", 44 TDI/TCLK (in) "Test data input or test clock input. The device protection fuse is connected to TDI/TCLK.", 45 TMS (in) "Test mode select. TMS is used as an input port for device programming and test.", 46 TCK (in) "Test clock. TCK is the clock input port for device programming and test.", 47 ~{RST}/NMI (in), 48 DVCC (power) "Digital supply voltage, positive terminal", 49 QFN PAD (power) "QFN package pad connection to DVSS recommended."

## MSP430F4250IRGZT
designator U?
8 MHz Mixed Signal Microcontroller with 16 KB Flash, 256 B SRAM and 32 GPIOs, -40 to 85 degC, 48-pin QFN (RGZ), Green (RoHS & no Sb/Br); Manufacturer: Texas Instruments; PartNumber: MSP430F4250IRGZT; ADC: 16-bit Sigma Delta; Brown Out Reset: Yes; DAC: 1; Flash(KB): 16; Frequency(MHz): 8; GPIO: 32; LCD Segments: 56; SRAM(B): 256; SubFamily: 4 Series with LCD; DatasheetVersion: SLAS455D; PackageVersion: 4204101/F; PackageReference: RGZ48-5150X5150TP; PackageDescription: 48-Pin Plastic Flat Pack, Body 7 x 7 mm, Pitch 0.5 mm; Supplier 1: Digi-Key; Supplier Part Number 1: MSP430F4250IRGZR-ND; Supplier 2: Mouser; Supplier Part Number 2: 595-MSP430F4250IRGZR; Eco-Plan: Green (RoHS & no Sb/Br); Temp Sensor: Yes; Timers - 16-bit: 1; Watchdog: Yes; Mounting Technology: Surface Mount; Code_JEDEC: MO-220; ComponentLink1Description: Manufacturer URL; ComponentLink1URL: http://www.ti.com/; ComponentLink2Description: Datasheet; ComponentLink2URL: http://www.ti.com/general/docs/lit/getliterature.tsp?genericPartNumber=MSP430F4250&fileType=pdf; ComponentLink3Description: Package Specification; ComponentLink3URL: http://www.ti.com/lit/ml/mpqf123e/mpqf123e.pdf
footprint TI-RGZ48-5150X5150TP_N (QFN, 48-Leads, Body 7x7mm, Pitch 0.5mm, Thermal Pad 5.15X5.15mm, IPC Medium Density)
pins: 1 DVSS (power) "Digital supply voltage, negative terminal", 2 XIN "Input terminal of crystal oscillator XT1", 3 XOUT "Output terminal of crystal oscillator XT1", 4 AVSS (power) "Analog supply voltage, negative terminal", 5 AVCC (power) "Analog supply voltage, positive terminal", 6 VREF "Analog reference voltage", 7 P6.0/A0+ (io), 8 P6.1/A0- (io), 9 P6.2/A1+ (io), 10 P6.3/A1- (io), 11 P6.4 (io) "General-purpose digital I/O", 12 P6.5 (io) "General-purpose digital I/O", 13 P6.6 (io) "General-purpose digital I/O", 14 P6.7 (io) "General-purpose digital I/O", 15 P1.7/A2+ (io), 16 P1.6/A2- (io), 17 P1.5/TACLK/ACLK/A3+ (io), 18 P1.4/A3-/DAC0 (io), 19 P1.3/TA2/A4+ (io), 20 P1.2/TA1/A4- (io), 21 P1.1/TA0/MCLK (io), 22 P1.0/TA0 (io), 23 LCDREF/R13, 24 LCDCAP/R23, 25 P5.1/S0 (io), 26 P5.0/S1 (io), 27 P5.5/S2 (io), 28 P5.6/S3 (io), 29 P5.7/S4 (io), 30 S5 (out) "LCD segment output 5", 31 P2.7/S6 (io), 32 P2.6/S7 (io), 33 P2.5/S8 (io), 34 P2.4/S9 (io), 35 P2.3/S10 (io), 36 P2.2/S11 (io), 37 P2.1/S12 (io), 38 P2.0/S13 (io), 39 COM0 (out) "Common output, COM0 are used for LCD backplanes.", 40 P5.2/COM1 (io), 41 P5.3/COM2 (io), 42 P5.4/COM3 (io), 43 TDO/TDI (io) "Test data output port. TDO/TDI data output or programming data input terminal", 44 TDI/TCLK (in) "Test data input or test clock input. The device protection fuse is connected to TDI/TCLK.", 45 TMS (in) "Test mode select. TMS is used as an input port for device programming and test.", 46 TCK (in) "Test clock. TCK is the clock input port for device programming and test.", 47 ~{RST}/NMI (in), 48 DVCC (power) "Digital supply voltage, positive terminal", 49 QFN PAD (power) "QFN package pad connection to DVSS recommended."

## MSP430F4260IDL
designator U?
8 MHz Mixed Signal Microcontroller with 24 KB Flash, 256 B SRAM and 32 GPIOs, -40 to 85 degC, 48-pin SOP (DL), Green (RoHS & no Sb/Br); Manufacturer: Texas Instruments; PartNumber: MSP430F4260IDL; ADC: 16-bit Sigma Delta; Brown Out Reset: Yes; DAC: 1; Flash(KB): 24; Frequency(MHz): 8; GPIO: 32; LCD Segments: 56; SRAM(B): 256; SubFamily: 4 Series with LCD; DatasheetVersion: SLAS455D; PackageVersion: 4040048/E; PackageReference: DL48; PackageDescription: 48-Pin Plastic Small Outline, Body 7.49 x 15.88 mm, Pitch 0.635 mm; Supplier 1: Digi-Key; Supplier Part Number 1: 296-24718-2-ND; Supplier 2: Digi-Key; Supplier Part Number 2: 296-24718-1-ND; Supplier 3: Digi-Key; Supplier Part Number 3: 296-24718-6-ND; Supplier 4: Newark; Supplier Part Number 4: 84M9637; Supplier 5: Mouser; Supplier Part Number 5: 595-MSP430F425AIPMR; Eco-Plan: Green (RoHS & no Sb/Br); Temp Sensor: Yes; Timers - 16-bit: 1; Watchdog: Yes; Mounting Technology: Surface Mount; Code_JEDEC: MO-118; ComponentLink1Description: Manufacturer URL; ComponentLink1URL: http://www.ti.com/; ComponentLink2Description: Datasheet; ComponentLink2URL: http://www.ti.com/general/docs/lit/getliterature.tsp?genericPartNumber=MSP430F4260&fileType=pdf; ComponentLink3Description: Package Specification; ComponentLink3URL: http://www.ti.com/lit/ml/msso001c/msso001c.pdf
footprint TI-DL48_N (SOP, 48-Leads, Body 15.88x7.49mm, Pitch 0.635mm, IPC Medium Density)
pins: 1 TDO/TDI (io), 2 TDI/TCLK (in), 3 TMS (in) "Test mode select. TMS is used as an input port for device programming and test.", 4 TCK (in) "Test clock. TCK is the clock input port for device programming and test.", 5 ~{RST}/NMI (in), 6 DVCC (power) "Digital supply voltage, positive terminal", 7 DVSS (power) "Digital supply voltage, negative terminal", 8 XIN "Input terminal of crystal oscillator XT1", 9 XOUT "Output terminal of crystal oscillator XT1", 10 AVSS (power) "Analog supply voltage, negative terminal", 11 AVCC (power) "Analog supply voltage, positive terminal", 12 VREF "Analog reference voltage", 13 P6.0/A0+ (io), 14 P6.1/A0- (io), 15 P6.2/A1+ (io), 16 P6.3/A1- (io), 17 P6.4 (io) "General-purpose digital I/O", 18 P6.5 (io) "General-purpose digital I/O", 19 P6.6 (io) "General-purpose digital I/O", 20 P6.7 (io) "General-purpose digital I/O", 21 P1.7/A2+ (io), 22 P1.6/A2- (io), 23 P1.5/TACLK/ACLK/A3+ (io), 24 P1.4/A3-/DAC0 (io), 25 P1.3/TA2/A4+ (io), 26 P1.2/TA1/A4- (io), 27 P1.1/TA0/MCLK (io), 28 P1.0/TA0 (io), 29 LCDREF/R13, 30 LCDCAP/R23, 31 P5.1/S0 (io), 32 P5.0/S1 (io), 33 P5.5/S2 (io), 34 P5.6/S3 (io), 35 P5.7/S4 (io), 36 S5 (out) "LCD segment output 5", 37 P2.7/S6 (io), 38 P2.6/S7 (io), 39 P2.5/S8 (io), 40 P2.4/S9 (io), 41 P2.3/S10 (io), 42 P2.2/S11 (io), 43 P2.1/S12 (io), 44 P2.0/S13 (io), 45 COM0 (out) "Common output, COM0-3 are used for LCD backplanes.", 46 P5.2/COM1 (io), 47 P5.3/COM2 (io), 48 P5.4/COM3 (io)

## MSP430F4260IDLR
designator U?
8 MHz Mixed Signal Microcontroller with 24 KB Flash, 256 B SRAM and 32 GPIOs, -40 to 85 degC, 48-pin SOP (DL), Green (RoHS & no Sb/Br); Manufacturer: Texas Instruments; PartNumber: MSP430F4260IDLR; ADC: 16-bit Sigma Delta; Brown Out Reset: Yes; DAC: 1; Flash(KB): 24; Frequency(MHz): 8; GPIO: 32; LCD Segments: 56; SRAM(B): 256; SubFamily: 4 Series with LCD; DatasheetVersion: SLAS455D; PackageVersion: 4040048/E; PackageReference: DL48; PackageDescription: 48-Pin Plastic Small Outline, Body 7.49 x 15.88 mm, Pitch 0.635 mm; Supplier 1: Digi-Key; Supplier Part Number 1: 296-33429-5-ND; Supplier 2: Farnell; Supplier Part Number 2: 1555270; Supplier 3: Newark; Supplier Part Number 3: 94M8455; Supplier 4: Mouser; Supplier Part Number 4: 595-MSP430F4260IDL; Eco-Plan: Green (RoHS & no Sb/Br); Temp Sensor: Yes; Timers - 16-bit: 1; Watchdog: Yes; Mounting Technology: Surface Mount; Code_JEDEC: MO-118; ComponentLink1Description: Manufacturer URL; ComponentLink1URL: http://www.ti.com/; ComponentLink2Description: Datasheet; ComponentLink2URL: http://www.ti.com/general/docs/lit/getliterature.tsp?genericPartNumber=MSP430F4260&fileType=pdf; ComponentLink3Description: Package Specification; ComponentLink3URL: http://www.ti.com/lit/ml/msso001c/msso001c.pdf
footprint TI-DL48_N (SOP, 48-Leads, Body 15.88x7.49mm, Pitch 0.635mm, IPC Medium Density)
pins: 1 TDO/TDI (io), 2 TDI/TCLK (in), 3 TMS (in) "Test mode select. TMS is used as an input port for device programming and test.", 4 TCK (in) "Test clock. TCK is the clock input port for device programming and test.", 5 ~{RST}/NMI (in), 6 DVCC (power) "Digital supply voltage, positive terminal", 7 DVSS (power) "Digital supply voltage, negative terminal", 8 XIN "Input terminal of crystal oscillator XT1", 9 XOUT "Output terminal of crystal oscillator XT1", 10 AVSS (power) "Analog supply voltage, negative terminal", 11 AVCC (power) "Analog supply voltage, positive terminal", 12 VREF "Analog reference voltage", 13 P6.0/A0+ (io), 14 P6.1/A0- (io), 15 P6.2/A1+ (io), 16 P6.3/A1- (io), 17 P6.4 (io) "General-purpose digital I/O", 18 P6.5 (io) "General-purpose digital I/O", 19 P6.6 (io) "General-purpose digital I/O", 20 P6.7 (io) "General-purpose digital I/O", 21 P1.7/A2+ (io), 22 P1.6/A2- (io), 23 P1.5/TACLK/ACLK/A3+ (io), 24 P1.4/A3-/DAC0 (io), 25 P1.3/TA2/A4+ (io), 26 P1.2/TA1/A4- (io), 27 P1.1/TA0/MCLK (io), 28 P1.0/TA0 (io), 29 LCDREF/R13, 30 LCDCAP/R23, 31 P5.1/S0 (io), 32 P5.0/S1 (io), 33 P5.5/S2 (io), 34 P5.6/S3 (io), 35 P5.7/S4 (io), 36 S5 (out) "LCD segment output 5", 37 P2.7/S6 (io), 38 P2.6/S7 (io), 39 P2.5/S8 (io), 40 P2.4/S9 (io), 41 P2.3/S10 (io), 42 P2.2/S11 (io), 43 P2.1/S12 (io), 44 P2.0/S13 (io), 45 COM0 (out) "Common output, COM0-3 are used for LCD backplanes.", 46 P5.2/COM1 (io), 47 P5.3/COM2 (io), 48 P5.4/COM3 (io)

## MSP430F4260IRGZR
designator U?
8 MHz Mixed Signal Microcontroller with 24 KB Flash, 256 B SRAM and 32 GPIOs, -40 to 85 degC, 48-pin QFN (RGZ), Green (RoHS & no Sb/Br); Manufacturer: Texas Instruments; PartNumber: MSP430F4260IRGZR; ADC: 16-bit Sigma Delta; Brown Out Reset: Yes; DAC: 1; Flash(KB): 24; Frequency(MHz): 8; GPIO: 32; LCD Segments: 56; SRAM(B): 256; SubFamily: 4 Series with LCD; DatasheetVersion: SLAS455D; PackageVersion: 4204101/F; PackageReference: RGZ48-5150X5150TP; PackageDescription: 48-Pin Plastic Flat Pack, Body 7 x 7 mm, Pitch 0.5 mm; Supplier 1: Digi-Key; Supplier Part Number 1: 296-18069-2-ND; Supplier 2: Digi-Key; Supplier Part Number 2: 296-18069-1-ND; Supplier 3: Digi-Key; Supplier Part Number 3: 296-18069-6-ND; Supplier 4: Newark; Supplier Part Number 4: 40K7778; Supplier 5: Mouser; Supplier Part Number 5: 595-MSP430F4260IDLR; Eco-Plan: Green (RoHS & no Sb/Br); Temp Sensor: Yes; Timers - 16-bit: 1; Watchdog: Yes; Mounting Technology: Surface Mount; Code_JEDEC: MO-220; ComponentLink1Description: Manufacturer URL; ComponentLink1URL: http://www.ti.com/; ComponentLink2Description: Datasheet; ComponentLink2URL: http://www.ti.com/general/docs/lit/getliterature.tsp?genericPartNumber=MSP430F4260&fileType=pdf; ComponentLink3Description: Package Specification; ComponentLink3URL: http://www.ti.com/lit/ml/mpqf123e/mpqf123e.pdf
footprint TI-RGZ48-5150X5150TP_N (QFN, 48-Leads, Body 7x7mm, Pitch 0.5mm, Thermal Pad 5.15X5.15mm, IPC Medium Density)
pins: 1 DVSS (power) "Digital supply voltage, negative terminal", 2 XIN "Input terminal of crystal oscillator XT1", 3 XOUT "Output terminal of crystal oscillator XT1", 4 AVSS (power) "Analog supply voltage, negative terminal", 5 AVCC (power) "Analog supply voltage, positive terminal", 6 VREF "Analog reference voltage", 7 P6.0/A0+ (io), 8 P6.1/A0- (io), 9 P6.2/A1+ (io), 10 P6.3/A1- (io), 11 P6.4 (io) "General-purpose digital I/O", 12 P6.5 (io) "General-purpose digital I/O", 13 P6.6 (io) "General-purpose digital I/O", 14 P6.7 (io) "General-purpose digital I/O", 15 P1.7/A2+ (io), 16 P1.6/A2- (io), 17 P1.5/TACLK/ACLK/A3+ (io), 18 P1.4/A3-/DAC0 (io), 19 P1.3/TA2/A4+ (io), 20 P1.2/TA1/A4- (io), 21 P1.1/TA0/MCLK (io), 22 P1.0/TA0 (io), 23 LCDREF/R13, 24 LCDCAP/R23, 25 P5.1/S0 (io), 26 P5.0/S1 (io), 27 P5.5/S2 (io), 28 P5.6/S3 (io), 29 P5.7/S4 (io), 30 S5 (out) "LCD segment output 5", 31 P2.7/S6 (io), 32 P2.6/S7 (io), 33 P2.5/S8 (io), 34 P2.4/S9 (io), 35 P2.3/S10 (io), 36 P2.2/S11 (io), 37 P2.1/S12 (io), 38 P2.0/S13 (io), 39 COM0 (out) "Common output, COM0 are used for LCD backplanes.", 40 P5.2/COM1 (io), 41 P5.3/COM2 (io), 42 P5.4/COM3 (io), 43 TDO/TDI (io) "Test data output port. TDO/TDI data output or programming data input terminal", 44 TDI/TCLK (in) "Test data input or test clock input. The device protection fuse is connected to TDI/TCLK.", 45 TMS (in) "Test mode select. TMS is used as an input port for device programming and test.", 46 TCK (in) "Test clock. TCK is the clock input port for device programming and test.", 47 ~{RST}/NMI (in), 48 DVCC (power) "Digital supply voltage, positive terminal", 49 QFN PAD (power) "QFN package pad connection to DVSS recommended."

## MSP430F4260IRGZT
designator U?
8 MHz Mixed Signal Microcontroller with 24 KB Flash, 256 B SRAM and 32 GPIOs, -40 to 85 degC, 48-pin QFN (RGZ), Green (RoHS & no Sb/Br); Manufacturer: Texas Instruments; PartNumber: MSP430F4260IRGZT; ADC: 16-bit Sigma Delta; Brown Out Reset: Yes; DAC: 1; Flash(KB): 24; Frequency(MHz): 8; GPIO: 32; LCD Segments: 56; SRAM(B): 256; SubFamily: 4 Series with LCD; DatasheetVersion: SLAS455D; PackageVersion: 4204101/F; PackageReference: RGZ48-5150X5150TP; PackageDescription: 48-Pin Plastic Flat Pack, Body 7 x 7 mm, Pitch 0.5 mm; Supplier 1: Digi-Key; Supplier Part Number 1: MSP430F4260IRGZR-ND; Supplier 2: Mouser; Supplier Part Number 2: 595-MSP430F4260IRGZR; Eco-Plan: Green (RoHS & no Sb/Br); Temp Sensor: Yes; Timers - 16-bit: 1; Watchdog: Yes; Mounting Technology: Surface Mount; Code_JEDEC: MO-220; ComponentLink1Description: Manufacturer URL; ComponentLink1URL: http://www.ti.com/; ComponentLink2Description: Datasheet; ComponentLink2URL: http://www.ti.com/general/docs/lit/getliterature.tsp?genericPartNumber=MSP430F4260&fileType=pdf; ComponentLink3Description: Package Specification; ComponentLink3URL: http://www.ti.com/lit/ml/mpqf123e/mpqf123e.pdf
footprint TI-RGZ48-5150X5150TP_N (QFN, 48-Leads, Body 7x7mm, Pitch 0.5mm, Thermal Pad 5.15X5.15mm, IPC Medium Density)
pins: 1 DVSS (power) "Digital supply voltage, negative terminal", 2 XIN "Input terminal of crystal oscillator XT1", 3 XOUT "Output terminal of crystal oscillator XT1", 4 AVSS (power) "Analog supply voltage, negative terminal", 5 AVCC (power) "Analog supply voltage, positive terminal", 6 VREF "Analog reference voltage", 7 P6.0/A0+ (io), 8 P6.1/A0- (io), 9 P6.2/A1+ (io), 10 P6.3/A1- (io), 11 P6.4 (io) "General-purpose digital I/O", 12 P6.5 (io) "General-purpose digital I/O", 13 P6.6 (io) "General-purpose digital I/O", 14 P6.7 (io) "General-purpose digital I/O", 15 P1.7/A2+ (io), 16 P1.6/A2- (io), 17 P1.5/TACLK/ACLK/A3+ (io), 18 P1.4/A3-/DAC0 (io), 19 P1.3/TA2/A4+ (io), 20 P1.2/TA1/A4- (io), 21 P1.1/TA0/MCLK (io), 22 P1.0/TA0 (io), 23 LCDREF/R13, 24 LCDCAP/R23, 25 P5.1/S0 (io), 26 P5.0/S1 (io), 27 P5.5/S2 (io), 28 P5.6/S3 (io), 29 P5.7/S4 (io), 30 S5 (out) "LCD segment output 5", 31 P2.7/S6 (io), 32 P2.6/S7 (io), 33 P2.5/S8 (io), 34 P2.4/S9 (io), 35 P2.3/S10 (io), 36 P2.2/S11 (io), 37 P2.1/S12 (io), 38 P2.0/S13 (io), 39 COM0 (out) "Common output, COM0 are used for LCD backplanes.", 40 P5.2/COM1 (io), 41 P5.3/COM2 (io), 42 P5.4/COM3 (io), 43 TDO/TDI (io) "Test data output port. TDO/TDI data output or programming data input terminal", 44 TDI/TCLK (in) "Test data input or test clock input. The device protection fuse is connected to TDI/TCLK.", 45 TMS (in) "Test mode select. TMS is used as an input port for device programming and test.", 46 TCK (in) "Test clock. TCK is the clock input port for device programming and test.", 47 ~{RST}/NMI (in), 48 DVCC (power) "Digital supply voltage, positive terminal", 49 QFN PAD (power) "QFN package pad connection to DVSS recommended."

## MSP430F4270IDL
designator U?
8 MHz Mixed Signal Microcontroller with 32 KB Flash, 256 B SRAM and 32 GPIOs, -40 to 85 degC, 48-pin SOP (DL), Green (RoHS & no Sb/Br); Manufacturer: Texas Instruments; PartNumber: MSP430F4270IDL; ADC: 16-bit Sigma Delta; Brown Out Reset: Yes; DAC: 1; Flash(KB): 32; Frequency(MHz): 8; LCD Segments: 56; SRAM(B): 256; SubFamily: 4 Series with LCD; DatasheetVersion: SLAS455D; PackageVersion: 4040048/E; PackageReference: DL48; PackageDescription: 48-Pin Plastic Small Outline, Body 7.49 x 15.88 mm, Pitch 0.635 mm; Supplier 1: Digi-Key; Supplier Part Number 1: 296-20939-2-ND; Supplier 2: Digi-Key; Supplier Part Number 2: 296-20939-1-ND; Supplier 3: Digi-Key; Supplier Part Number 3: 296-20939-6-ND; Supplier 4: Farnell; Supplier Part Number 4: 1555271; Supplier 5: Farnell; Supplier Part Number 5: 1624514; Supplier 6: Newark; Supplier Part Number 6: 57K1106; Supplier 7: Mouser; Supplier Part Number 7: 595-MSP430F4260IRGZT; Eco-Plan: Green (RoHS & no Sb/Br); GPIO: 32; Temp Sensor: Yes; Timers - 16-bit: 1; Watchdog: Yes; Mounting Technology: Surface Mount; Code_JEDEC: MO-118; ComponentLink1Description: Manufacturer URL; ComponentLink1URL: http://www.ti.com/; ComponentLink2Description: Datasheet; ComponentLink2URL: http://www.ti.com/general/docs/lit/getliterature.tsp?genericPartNumber=MSP430F4270&fileType=pdf; ComponentLink3Description: Package Specification; ComponentLink3URL: http://www.ti.com/lit/ml/msso001c/msso001c.pdf
footprint TI-DL48_N (SOP, 48-Leads, Body 15.88x7.49mm, Pitch 0.635mm, IPC Medium Density)
pins: 1 TDO/TDI (io), 2 TDI/TCLK (in), 3 TMS (in) "Test mode select. TMS is used as an input port for device programming and test.", 4 TCK (in) "Test clock. TCK is the clock input port for device programming and test.", 5 ~{RST}/NMI (in), 6 DVCC (power) "Digital supply voltage, positive terminal", 7 DVSS (power) "Digital supply voltage, negative terminal", 8 XIN "Input terminal of crystal oscillator XT1", 9 XOUT "Output terminal of crystal oscillator XT1", 10 AVSS (power) "Analog supply voltage, negative terminal", 11 AVCC (power) "Analog supply voltage, positive terminal", 12 VREF "Analog reference voltage", 13 P6.0/A0+ (io), 14 P6.1/A0- (io), 15 P6.2/A1+ (io), 16 P6.3/A1- (io), 17 P6.4 (io) "General-purpose digital I/O", 18 P6.5 (io) "General-purpose digital I/O", 19 P6.6 (io) "General-purpose digital I/O", 20 P6.7 (io) "General-purpose digital I/O", 21 P1.7/A2+ (io), 22 P1.6/A2- (io), 23 P1.5/TACLK/ACLK/A3+ (io), 24 P1.4/A3-/DAC0 (io), 25 P1.3/TA2/A4+ (io), 26 P1.2/TA1/A4- (io), 27 P1.1/TA0/MCLK (io), 28 P1.0/TA0 (io), 29 LCDREF/R13, 30 LCDCAP/R23, 31 P5.1/S0 (io), 32 P5.0/S1 (io), 33 P5.5/S2 (io), 34 P5.6/S3 (io), 35 P5.7/S4 (io), 36 S5 (out) "LCD segment output 5", 37 P2.7/S6 (io), 38 P2.6/S7 (io), 39 P2.5/S8 (io), 40 P2.4/S9 (io), 41 P2.3/S10 (io), 42 P2.2/S11 (io), 43 P2.1/S12 (io), 44 P2.0/S13 (io), 45 COM0 (out) "Common output, COM0-3 are used for LCD backplanes.", 46 P5.2/COM1 (io), 47 P5.3/COM2 (io), 48 P5.4/COM3 (io)

## MSP430F4270IDLR
designator U?
8 MHz Mixed Signal Microcontroller with 32 KB Flash, 256 B SRAM and 32 GPIOs, -40 to 85 degC, 48-pin SOP (DL), Green (RoHS & no Sb/Br); Manufacturer: Texas Instruments; PartNumber: MSP430F4270IDLR; ADC: 16-bit Sigma Delta; Brown Out Reset: Yes; DAC: 1; Flash(KB): 32; Frequency(MHz): 8; LCD Segments: 56; SRAM(B): 256; SubFamily: 4 Series with LCD; DatasheetVersion: SLAS455D; PackageVersion: 4040048/E; PackageReference: DL48; PackageDescription: 48-Pin Plastic Small Outline, Body 7.49 x 15.88 mm, Pitch 0.635 mm; Supplier 1: Digi-Key; Supplier Part Number 1: 296-26229-5-ND; Supplier 2: Farnell; Supplier Part Number 2: 1611750; Supplier 3: Newark; Supplier Part Number 3: 40K7779; Supplier 4: Mouser; Supplier Part Number 4: 595-MSP430F4270IDL; Eco-Plan: Green (RoHS & no Sb/Br); GPIO: 32; Temp Sensor: Yes; Timers - 16-bit: 1; Watchdog: Yes; Mounting Technology: Surface Mount; Code_JEDEC: MO-118; ComponentLink1Description: Manufacturer URL; ComponentLink1URL: http://www.ti.com/; ComponentLink2Description: Datasheet; ComponentLink2URL: http://www.ti.com/general/docs/lit/getliterature.tsp?genericPartNumber=MSP430F4270&fileType=pdf; ComponentLink3Description: Package Specification; ComponentLink3URL: http://www.ti.com/lit/ml/msso001c/msso001c.pdf
footprint TI-DL48_N (SOP, 48-Leads, Body 15.88x7.49mm, Pitch 0.635mm, IPC Medium Density)
pins: 1 TDO/TDI (io), 2 TDI/TCLK (in), 3 TMS (in) "Test mode select. TMS is used as an input port for device programming and test.", 4 TCK (in) "Test clock. TCK is the clock input port for device programming and test.", 5 ~{RST}/NMI (in), 6 DVCC (power) "Digital supply voltage, positive terminal", 7 DVSS (power) "Digital supply voltage, negative terminal", 8 XIN "Input terminal of crystal oscillator XT1", 9 XOUT "Output terminal of crystal oscillator XT1", 10 AVSS (power) "Analog supply voltage, negative terminal", 11 AVCC (power) "Analog supply voltage, positive terminal", 12 VREF "Analog reference voltage", 13 P6.0/A0+ (io), 14 P6.1/A0- (io), 15 P6.2/A1+ (io), 16 P6.3/A1- (io), 17 P6.4 (io) "General-purpose digital I/O", 18 P6.5 (io) "General-purpose digital I/O", 19 P6.6 (io) "General-purpose digital I/O", 20 P6.7 (io) "General-purpose digital I/O", 21 P1.7/A2+ (io), 22 P1.6/A2- (io), 23 P1.5/TACLK/ACLK/A3+ (io), 24 P1.4/A3-/DAC0 (io), 25 P1.3/TA2/A4+ (io), 26 P1.2/TA1/A4- (io), 27 P1.1/TA0/MCLK (io), 28 P1.0/TA0 (io), 29 LCDREF/R13, 30 LCDCAP/R23, 31 P5.1/S0 (io), 32 P5.0/S1 (io), 33 P5.5/S2 (io), 34 P5.6/S3 (io), 35 P5.7/S4 (io), 36 S5 (out) "LCD segment output 5", 37 P2.7/S6 (io), 38 P2.6/S7 (io), 39 P2.5/S8 (io), 40 P2.4/S9 (io), 41 P2.3/S10 (io), 42 P2.2/S11 (io), 43 P2.1/S12 (io), 44 P2.0/S13 (io), 45 COM0 (out) "Common output, COM0-3 are used for LCD backplanes.", 46 P5.2/COM1 (io), 47 P5.3/COM2 (io), 48 P5.4/COM3 (io)

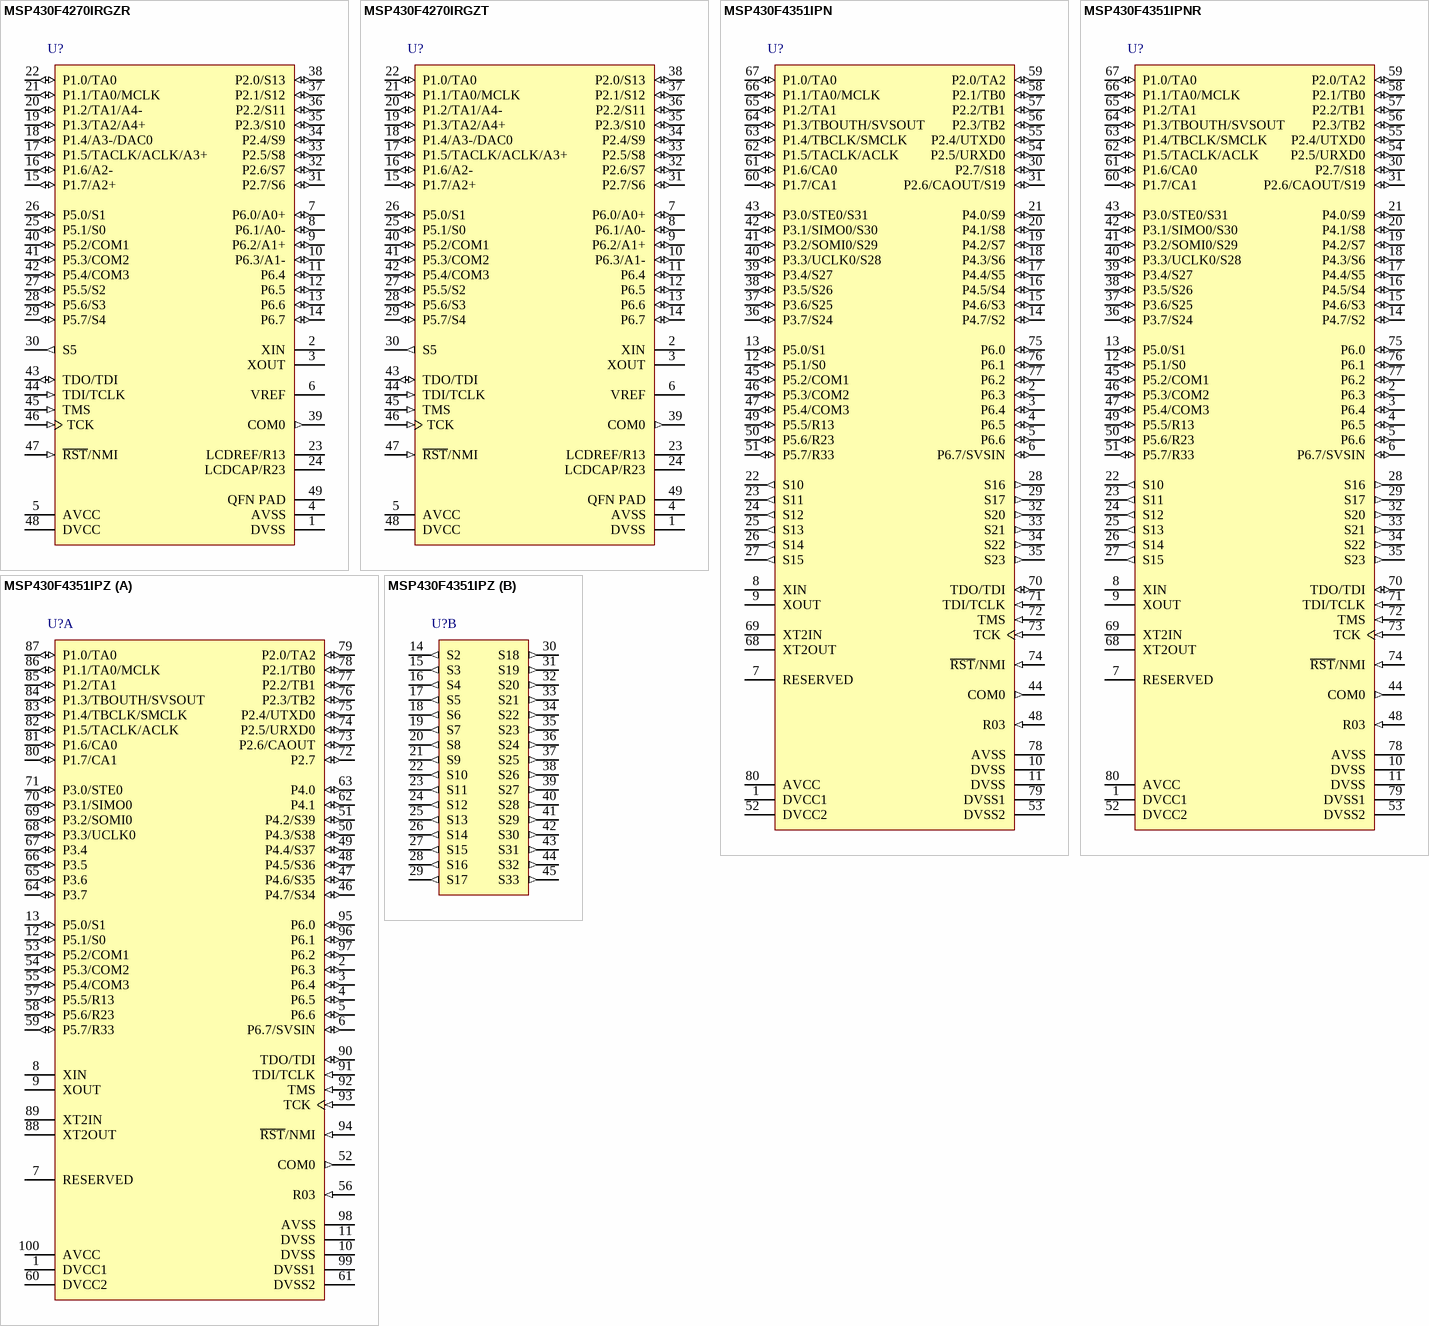
[diagram p80: symbols MSP430F4270IRGZR to MSP430F4351IPZ]